# EAGLE library part MILLI-GRID-28 (library con-molex)
Milli-Grid Pin Header 2.00mm (.079") Pitch
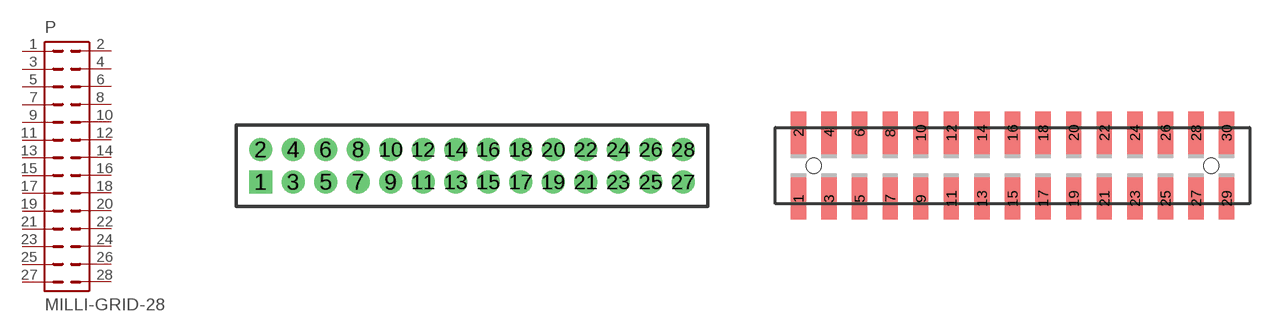
[diagram p62: symbol with the pads of 87758-28; footprints 87758-28, 87759-30]

Designator prefix P

## MILLI-GRID-28-87758  [87758-28]
1  1  pas
2  2  pas
3  3  pas
4  4  pas
5  5  pas
6  6  pas
7  7  pas
8  8  pas
9  9  pas
10  10  pas
11  11  pas
12  12  pas
13  13  pas
14  14  pas
15  15  pas
16  16  pas
17  17  pas
18  18  pas
19  19  pas
20  20  pas
21  21  pas
22  22  pas
23  23  pas
24  24  pas
25  25  pas
26  26  pas
27  27  pas
28  28  pas

## MILLI-GRID-28-87759  [87759-30]
Pads as for 87758-28

## MILLI-GRID-28-87264  [87264-28]
Pads as for 87758-28

## MILLI-GRID-28-87368  [87368-28]
Pads as for 87758-28

## Footprint 87758-28 (pad centres in mm)
PCB Pin Headers 2.00mm (.079") Pitch Milli-Grid Header, Vertical
drill 0.914 square: 1 -13,-1
drill 0.914: 2 -13,1; 3 -11,-1; 4 -11,1; 5 -9,-1; 6 -9,1; 7 -7,-1; 8 -7,1; 9 -5,-1; 10 -5,1; 11 -3,-1; 12 -3,1; 13 -1,-1; 14 -1,1; 15 1,-1; 16 1,1; 17 3,-1; 18 3,1; 19 5,-1; 20 5,1; 21 7,-1; 22 7,1; 23 9,-1; 24 9,1; 25 11,-1; 26 11,1; 27 13,-1; 28 13,1

## Footprint 87759-30 (pad centres in mm)
PCB Pin Headers 2.00mm (.079") Pitch Milli-Grid Header, Vertical SMD
smd 1 x 2.75: 1 -14,-2.15; 2 -14,2.15; 3 -12,-2.15; 4 -12,2.15; 5 -10,-2.15; 6 -10,2.15; 7 -8,-2.15; 8 -8,2.15; 9 -6,-2.15; 10 -6,2.15; 11 -4,-2.15; 12 -4,2.15; 13 -2,-2.15; 14 -2,2.15; 15 0,-2.15; 16 0,2.15; 17 2,-2.15; 18 2,2.15; 19 4,-2.15; 20 4,2.15; 21 6,-2.15; 22 6,2.15; 23 8,-2.15; 24 8,2.15; 25 10,-2.15; 26 10,2.15; 27 12,-2.15; 28 12,2.15; 29 14,-2.15; 30 14,2.15
hole 1 at -13,0
hole 1 at 13,0

## Footprint 87264-28 (pad centres in mm)
Board-To-Board Receptacal 2.00mm (.079") Pitch Milli-Grid Header, Side Entry Mates with 2mm(.079") Mill-Grid Header
drill 0.914 square: 1 -13,-2.25
drill 0.914: 2 -13,2.25; 3 -11,-2.25; 4 -11,2.25; 5 -9,-2.25; 6 -9,2.25; 7 -7,-2.25; 8 -7,2.25; 9 -5,-2.25; 10 -5,2.25; 11 -3,-2.25; 12 -3,2.25; 13 -1,-2.25; 14 -1,2.25; 15 1,-2.25; 16 1,2.25; 17 3,-2.25; 18 3,2.25; 19 5,-2.25; 20 5,2.25; 21 7,-2.25; 22 7,2.25; 23 9,-2.25; 24 9,2.25; 25 11,-2.25; 26 11,2.25; 27 13,-2.25; 28 13,2.25

## Footprint 87368-28 (pad centres in mm)
Board-To-Board Receptacal 2.00mm (.079") Pitch Milli-Grid Header, Side Entry SMD Mates with 2mm(.079") Mill-Grid Header
smd 1 x 2.8: 1 -13,-3.1; 2 -13,3.1; 3 -11,-3.1; 4 -11,3.1; 5 -9,-3.1; 6 -9,3.1; 7 -7,-3.1; 8 -7,3.1; 9 -5,-3.1; 10 -5,3.1; 11 -3,-3.1; 12 -3,3.1; 13 -1,-3.1; 14 -1,3.1; 15 1,-3.1; 16 1,3.1; 17 3,-3.1; 18 3,3.1; 19 5,-3.1; 20 5,3.1; 21 7,-3.1; 22 7,3.1; 23 9,-3.1; 24 9,3.1; 25 11,-3.1; 26 11,3.1; 27 13,-3.1; 28 13,3.1
hole 0.914 at -13,0
hole 0.914 at 0,0